# EAGLE library part VECTREX_TOGGLE_SWITCH (library Mini-Lora_v2_2)
TOGGLE SWITCH distributor RS Components
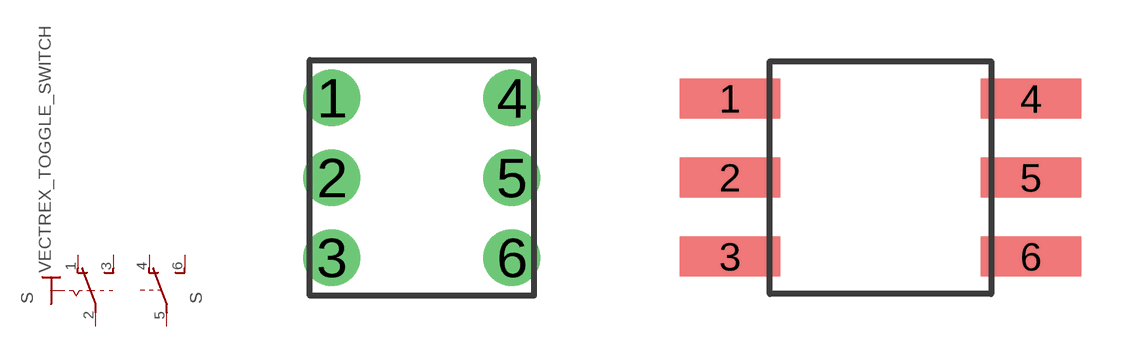
[diagram p11: symbol with the pads of VECTREX_TOGGLE_SWITCH; footprints VECTREX_TOGGLE_SWITCH, VECTREX_TOGGLE_SWITCH_SMD]

Designator prefix S; gates 1=VECTREX_KS-U- B=VECTREX_U2

## VECTREX_TOGGLE_SWITCH  [VECTREX_TOGGLE_SWITCH]
1  1:O  pas
2  1:P  pas
3  1:S  pas
4  B:O  pas
5  B:P  pas
6  B:S  pas

## VECTREX_TOGGLE_SWITCHTS_SMD  [VECTREX_TOGGLE_SWITCH_SMD]
Pads as for VECTREX_TOGGLE_SWITCH

## Footprint VECTREX_TOGGLE_SWITCH (pad centres in mm)
TOGGLE SWITCH distributor RS Components
drill 0.7 pad 1.422: 1 -2.25,2; 2 -2.25,0; 3 -2.25,-2; 4 2.25,2; 5 2.25,0; 6 2.25,-2

## Footprint VECTREX_TOGGLE_SWITCH_SMD (pad centres in mm)
smd 2.54 x 1.016: 1 -3.81,2; 2 -3.81,0; 3 -3.81,-2; 4 3.81,2; 5 3.81,0; 6 3.81,-2